# EAGLE library part STW81200 (library VNA)
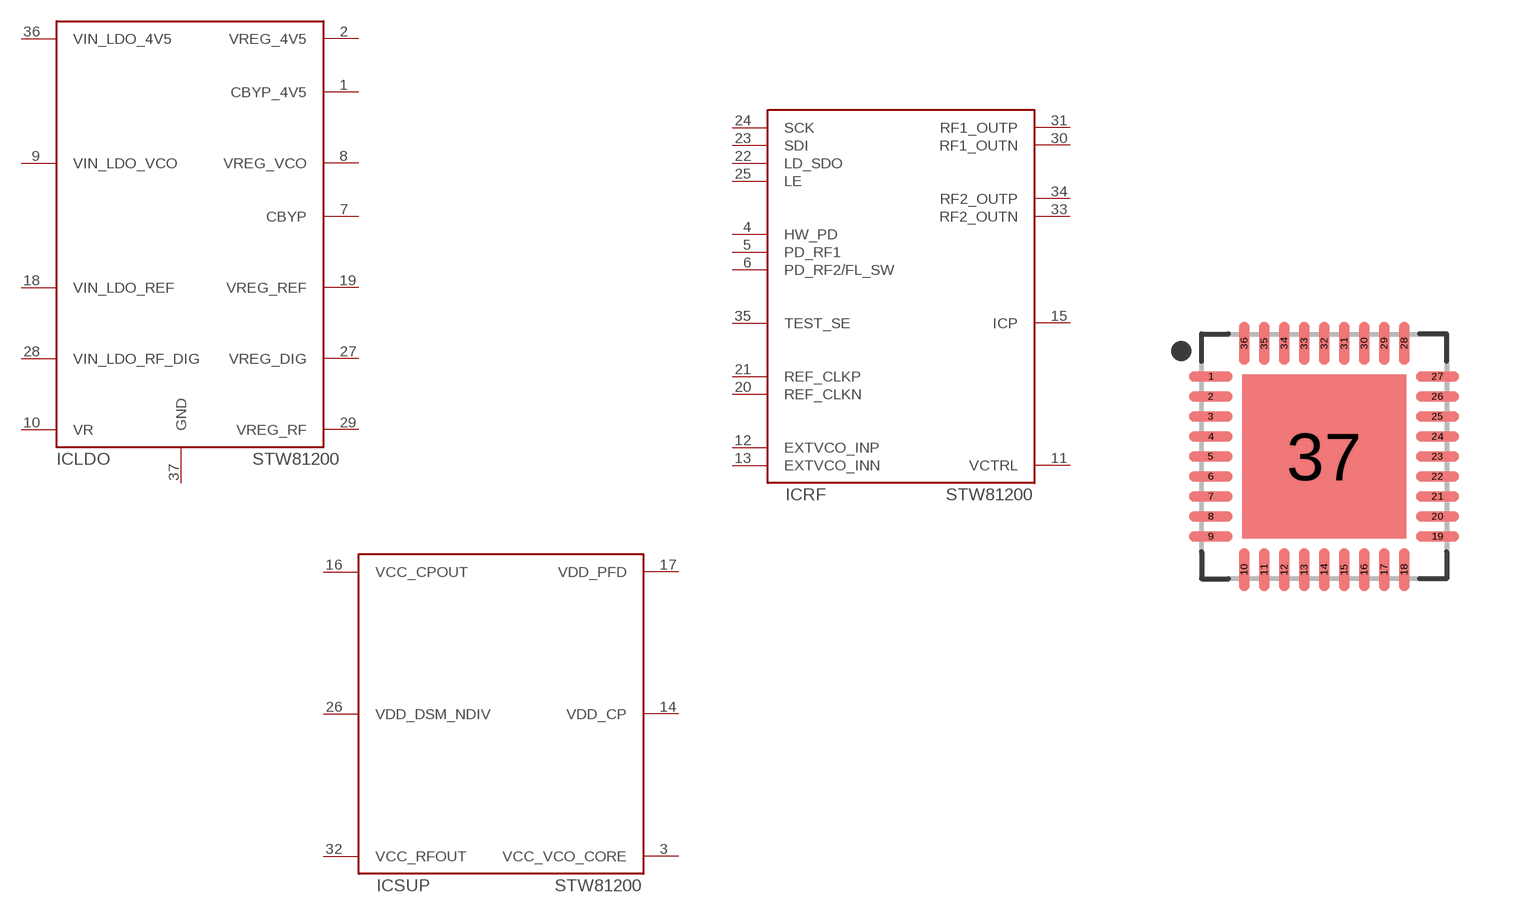
[diagram p15: symbol with the pads of QFN50P600X600X100-37T410N; footprint QFN50P600X600X100-37T410N]

Designator prefix IC; gates LDO=STW8100LDO RF=STW81200RF SUP=STW81200SUPPLY

## STW81200  [QFN50P600X600X100-37T410N]
1  LDO:CBYP_4V5  pas
2  LDO:VREG_4V5  out
3  SUP:VCC_VCO_CORE  pwr
4  RF:HW_PD  in
5  RF:PD_RF1  in
6  RF:PD_RF2/FL_SW  oc
7  LDO:CBYP  pas
8  LDO:VREG_VCO  out
9  LDO:VIN_LDO_VCO  pwr
10  LDO:VR  pas
11  RF:VCTRL  in
12  RF:EXTVCO_INP  in
13  RF:EXTVCO_INN  in
14  SUP:VDD_CP  pwr
15  RF:ICP  out
16  SUP:VCC_CPOUT  pwr
17  SUP:VDD_PFD  pwr
18  LDO:VIN_LDO_REF  pwr
19  LDO:VREG_REF  out
20  RF:REF_CLKN  in
21  RF:REF_CLKP  in
22  RF:LD_SDO  out
23  RF:SDI  in
24  RF:SCK  in
25  RF:LE  in
26  SUP:VDD_DSM_NDIV  pwr
27  LDO:VREG_DIG  out
28  LDO:VIN_LDO_RF_DIG  pwr
29  LDO:VREG_RF  out
30  RF:RF1_OUTN
31  RF:RF1_OUTP
32  SUP:VCC_RFOUT  pwr
33  RF:RF2_OUTN
34  RF:RF2_OUTP
35  RF:TEST_SE  in
36  LDO:VIN_LDO_4V5  pwr
37  LDO:GND  pwr

## Footprint QFN50P600X600X100-37T410N (pad centres in mm)
36-QFN, 0.50 mm pitch, 6.00 X 6.00 X 1.00 mm body, 4.10 X 4.10 mm thermal pad 36-pin QFN package with 0.50 mm pitch with body size 6.00 X 6.00 X 1.00 mm and thermal pad size 4.10 X 4.10 mm
smd 1.084 x 0.264: 1 -2.832,2; 2 -2.832,1.5; 3 -2.832,1; 4 -2.832,0.5; 5 -2.832,0; 6 -2.832,-0.5; 7 -2.832,-1; 8 -2.832,-1.5; 9 -2.832,-2; 19 2.832,-2; 20 2.832,-1.5; 21 2.832,-1; 22 2.832,-0.5; 23 2.832,0; 24 2.832,0.5; 25 2.832,1; 26 2.832,1.5; 27 2.832,2
smd 0.264 x 1.084: 10 -2,-2.832; 11 -1.5,-2.832; 12 -1,-2.832; 13 -0.5,-2.832; 14 0,-2.832; 15 0.5,-2.832; 16 1,-2.832; 17 1.5,-2.832; 18 2,-2.832; 28 2,2.832; 29 1.5,2.832; 30 1,2.832; 31 0.5,2.832; 32 0,2.832; 33 -0.5,2.832; 34 -1,2.832; 35 -1.5,2.832; 36 -2,2.832
smd 4.1 x 4.1: 37 0,0